# Altium footprint library HC_49S_Crystal.PcbLib: 1 footprints
Each footprint in its own frame and in the unit in brackets; x right, y up, seen from the top. Pads: shape width x height; smd on the part's side, far side on the other; paste and mask are expansions set on the pad; w line width, h text height; cw(c..) or ccw(c..) is an arc to the next point about the centre after c.
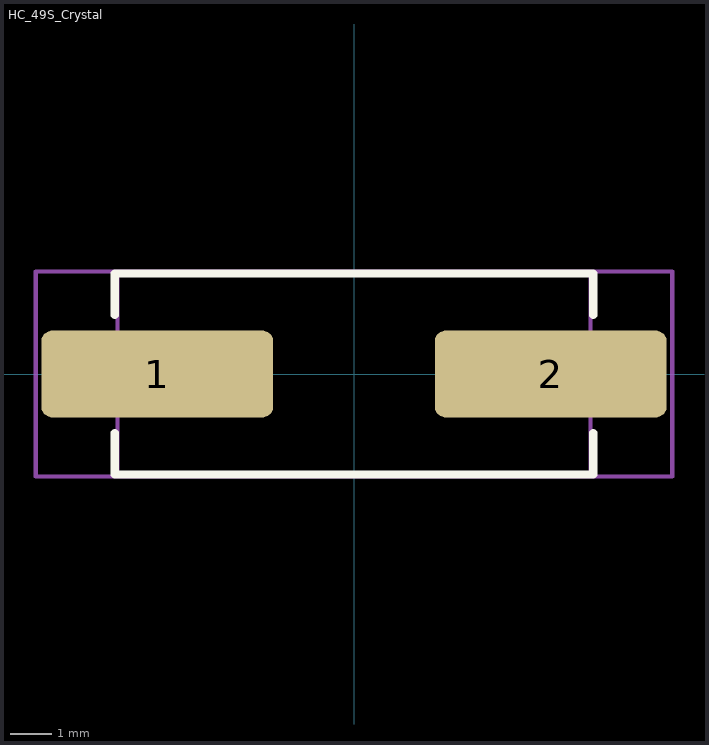
[diagram p0: the footprint, top view; thin cyan lines are the x and y axes]

## HC_49S_Crystal [mm]
pads (2):
  rrect25% 5.6x2.1 smd: 1(-4.75,0) 2(4.75,0)
Top Overlay:
  lines w0.2: -5.775,-1.425 -5.775,-2.425 5.775,-2.425 5.775,-1.425 ; -5.775,1.425 -5.775,2.425 5.775,2.425 5.775,1.425
Mechanical 1:
  lines w0.1: -7.683,-2.476 7.683,-2.476 7.683,2.476 -7.683,2.476 -7.683,-2.476 ; -5.715,-2.413 5.715,-2.413 5.715,2.413 -5.715,2.413 -5.715,-2.413
  text ".Designator" at 0,0.188 h1
Top Courtyard:
  text "+" at -0.381,-0.571 h1.14
3D body "Crys_Abracon_ABLS-16_000MHZ-K4T_eec.STEP": height 4.3, standoff 0, extent -6.35,-2.35 6.35,2.35